# EAGLE library part 760372002 (library Wurth_Power Magnetics_WE-FLYTI)
WE-FLYTI Flyback Transformers Characteristics Low leakage inductance Multiple package sizes Wide range input voltages Different output voltages available Isolation voltage: up to 3000VAC Lead free and RoHS compliant Operating temp: -40°C to 125°C Applications Industrial and medical power supplies Auxiliary power supplies Home automation Isolated DC/DC power supplies <https://www.we-online.com/components/media/o795300v209%20FAMILY-MID-FLYTI.jpg> Details see: www.we-online.com/en/components/products/WE-FLYTI <www.we-online.com/catalog/WE-FLYTI/?utm_source=eagle_model&utm_medium=description_link&utm_campaign=eisos_eagle> Created by Ella Wu 2024-07-03 2024 (C) Wurth Elektronik
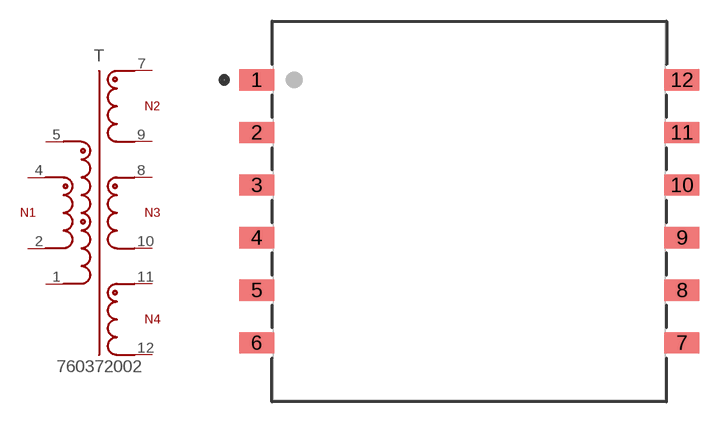
[diagram p2: symbol with the pads of WE-FLYTI_EFD25_4476; footprint WE-FLYTI_EFD25_4476]

Designator prefix T

## 760372002 (DATASHEET-URL: https://www.we-online.com/redexpert/spec/760372002?ae; IOUT1: 2500mA; IOUT2: 2500mA; IOUT3: 100mA; ISAT: 7.5A; L: 25uH; LS: 1000nH; MOUNT: SMT; N: 2:1:1:1; PART-NUMBER: 760372002; SIZE: EFD25; VALUE: 760372002; VIN: 9 - 36 V (DC); VOUT1: 5V; VOUT2: 5V; VOUT3: 5V; VT: 1500V(AC))  [WE-FLYTI_EFD25_4476]
1  1  pas
2  2  pas
4  4  pas
5  5  pas
7  7  pas
8  8  pas
9  9  pas
10  10  pas
11  11  pas
12  12  pas

## Footprint WE-FLYTI_EFD25_4476 (pad centres in mm)
WE-FLYTI Flyback Transformers Size:EFD25,SMT,12pins Bobbin: 070-4476
smd 2.5 x 1.52: 1 -15.19,9.4; 2 -15.19,5.64; 3 -15.19,1.88; 4 -15.19,-1.88; 5 -15.19,-5.64; 6 -15.19,-9.4; 7 15.19,-9.4; 8 15.19,-5.64; 9 15.19,-1.88; 10 15.19,1.88; 11 15.19,5.64; 12 15.19,9.4